# Altium schematic symbol library Schlib1.SchLib: 1 symbol
Pins are listed as number, name and electrical type; pins without a type are passive.

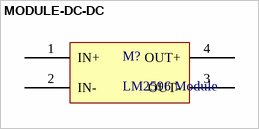
[diagram p0: symbol MODULE-DC-DC]

## MODULE-DC-DC
designator M?, comment LM2596 Module
LM2596 , Power Module ,  Step-Down Voltage Regulator Module
footprint DC-DC-MODULE (LM2596 , Power Module ,  Step-Down Voltage Regulator Module)
pins: 1 IN+, 2 IN-, 3 OUT-, 4 OUT+